# Altium schematic symbol library NEC CONTROL BOARD.SchLib: 9 symbols
Pins are listed as number, name and electrical type; pins without a type are passive.

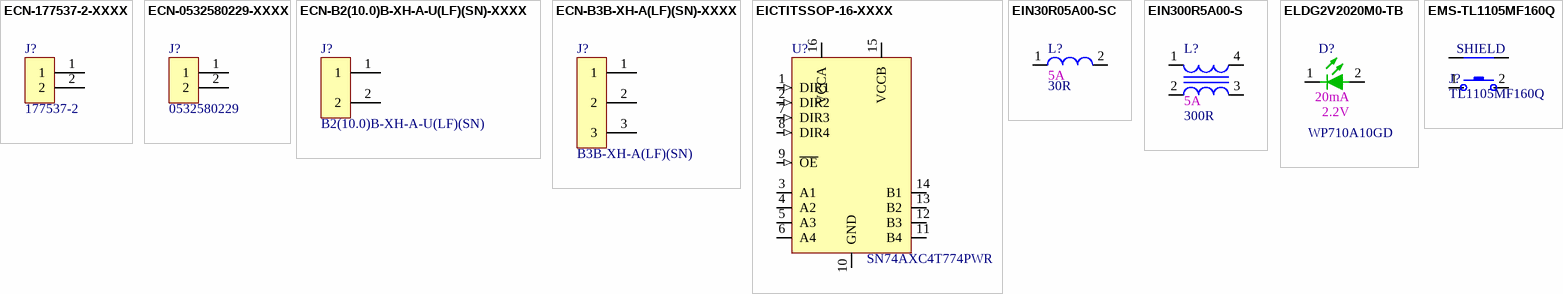
[diagram p0: symbols ECN-177537-2-XXXX to EMS-TL1105MF160Q]

## ECN-177537-2-XXXX
designator J?, comment value 177537-2  (hidden comment: CONN HEADER VERT 2POS 2.5MM)
Vendor Part Number: A112754-ND; Manufacturer: TE Connectivity AMP Connectors; Internal Part Number: ECN-177537-2-XXXX; 2nd Auxiliary Field: 2.50mm; 3rd Auxiliary Field: RoHS Compliant; Vendor Name: Digi-Key; Component Height (mm): 6.48mm; Temp Co: -25°C ~ 105°C; Part Type: CONN HEADER VERT 2POS 2.5MM; 1st Auxiliary Field: 2POS; 4th Auxiliary Field: *; Manufacturer Part Number: 177537-2
footprint TE_177537-2
pins: 1, 2

## ECN-0532580229-XXXX
designator J?, comment value 0532580229  (hidden comment: CONN HEADER VERT 2POS 3.5MM)
Vendor Part Number: WM3413-ND; Manufacturer: Molex; Internal Part Number: ECN-0532580229-XXXX; 2nd Auxiliary Field: 3.50mm; 3rd Auxiliary Field: ROHS3 Compliant; Vendor Name: Digi-Key; Component Height (mm): 10.5mm; Part Type: CONN HEADER VERT 2POS 3.5MM; 1st Auxiliary Field: 2POS; 4th Auxiliary Field: *; Manufacturer Part Number: 0532580229
footprint MOLEX_0532580229
pins: 1, 2

## ECN-B2(10.0)B-XH-A-U(LF)(SN)-XXXX
designator J?, comment value B2(10.0)B-XH-A-U(LF)(SN)  (hidden comment: CONN HEADER VERT 2POS 10MM)
Vendor Part Number: 455-4225-ND; Manufacturer: JST Sales America Inc.; Internal Part Number: ECN-B2(10.0)B-XH-A-U(LF)(SN)-XXXX; 1st Auxiliary Field: 3A; 2nd Auxiliary Field: 10.00mm; 3rd Auxiliary Field: ROHS Compliant; Vendor Name: Digi-Key; Component Height (mm): 7mm; Temp Co: -25°C ~ 85°C; Part Type: CONN HEADER VERT 2POS 10MM; 4th Auxiliary Field: *; Manufacturer Part Number: B2(10.0)B-XH-A-U(LF)(SN)
footprint JST_B2(10.0)B-XH-A-U(LF)(SN)
pins: 1, 2

## ECN-B3B-XH-A(LF)(SN)-XXXX
designator J?, comment value B3B-XH-A(LF)(SN)  (hidden comment: CONN HEADER VERT 3POS 2.5MM)
Vendor Part Number: 455-2248-ND; Manufacturer: JST Sales America Inc.; Internal Part Number: ECN-B3B-XH-A(LF)(SN)-XXXX; 1st Auxiliary Field: 3A; 2nd Auxiliary Field: 2.50mm; 3rd Auxiliary Field: ROHS Compliant; Vendor Name: Digi-Key; Component Height (mm): 7mm; Temp Co: -25°C ~ 85°C; Part Type: CONN HEADER VERT 3POS 2.5MM; 4th Auxiliary Field: *; Manufacturer Part Number: B3B-XH-A(LF)(SN)
footprint JST_B3B-XH-A(LF)(SN)
pins: 1, 2, 3

## EICTITSSOP-16-XXXX
designator U?, comment value SN74AXC4T774PWR  (hidden comment: IC LOGIC BUFFER/DRIVER)
Manufacturer: Texas Instruments; Vendor Part Number: 296-SN74AXC4T774PWRCT-ND; Internal Part Number: EICTITSSOP-16-XXXX; 1st Auxiliary Field: 0.65V ~ 3.6V; 2nd Auxiliary Field: 310Mbps; 3rd Auxiliary Field: ROHS3 Compliant; Vendor Name: Digi-Key; Component Height (mm): 1.2mm; Temp Co: -40°C ~ 125°C (TA); Manufacturer Part Number: SN74AXC4T774PWR; Part Type: IC LOGIC BUFFER/DRIVER; 4th Auxiliary Field: *
footprint TSOP65P640X120-16N (TSOP, 16-Leads, Body 5.00x4.40mm, Pitch 0.65mm, IPC Medium Density)
pins: 1 DIR1 (in), 2 DIR2 (in), 3 A1 (io), 4 A2 (io), 5 A3 (io), 6 A4 (io), 7 DIR3 (in), 8 DIR4 (in), 9 ~{OE} (in), 10 GND (power), 11 B4 (io), 12 B3 (io), 13 B2 (io), 14 B1 (io), 15 VCCB (power), 16 VCCA (power)

## EIN30R05A00-SC
designator L?, comment value 30R  1st Auxiliary Field: 5A  (hidden comment: FERRITE BEAD 30 OHM 0603 1LN)
Manufacturer: Murata Electronics; Manufacturer Part Number: BLM18KG300TZ1D; Vendor Part Number: 490-16498-1-ND; Internal Part Number: EIN30R05A00-SC; Vendor Name: Digi-Key; 3rd Auxiliary Field: ROHS3 Compliant; Component Height (mm): 0.75mm; Temp Co: -55°C ~ 125°C; 2nd Auxiliary Field: 30 Ohms @ 100MHz; Part Type: FERRITE BEAD 30 OHM 0603 1LN; 4th Auxiliary Field: *
footprint SMDL0603 (Footprint not found)
pins: 1, 2

## EIN300R5A00-S
designator L?, comment value 300R  1st Auxiliary Field: 5A  (hidden comment: CMC 5A 2LN 300 OHM SMD)
Manufacturer: TDK Corporation; Manufacturer Part Number: ACM7060-301-2PL-TL01; Vendor Part Number: 445-2214-1-ND; Internal Part Number: EIN300R05A00-S; Vendor Name: Digi-Key; 3rd Auxiliary Field: ROHS3 Compliant; Component Height (mm): 3.50mm; Temp Co: -40°C ~ 85°C; 2nd Auxiliary Field: 300 Ohms @ 100MHz; Part Type: CMC 5A 2LN 300 OHM SMD; 4th Auxiliary Field: *
footprint CHOKE_ACM7060-301-2PL-TL01
pins: 1, 2, 3, 4

## ELDG2V2020M0-TB
designator D?, comment value WP710A10GD  2nd Auxiliary Field: 20mA  1st Auxiliary Field: 2.2V  (hidden comment: LED GREEN DIFFUSED T-1 T/H)
Manufacturer: Kingbright; Vendor Part Number: 754-1603-ND; Internal Part Number: ELDG2V2020M0-TB; Vendor Name: Digi-Key; 3rd Auxiliary Field: ROHS3 Compliant; Component Height (mm): 5.90mm; Temp Co: -40°C ~ 85°C; Part Type: LED GREEN DIFFUSED T-1 T/H; Manufacturer Part Number: WP710A10GD; 4th Auxiliary Field: *
footprint LEDG-3.2D-T/H
pins: 1 K, 2 A

## EMS-TL1105MF160Q
designator J?, comment value TL1105MF160Q  (hidden comment: SWITCH TACTILE SPST-NO 0.05A 12V)
Vendor Part Number: EG4370-ND; Manufacturer: E-Switch; Internal Part Number: EMS-TL1105MF160Q; 1st Auxiliary Field: 0.05A @ 12VDC; 3rd Auxiliary Field: ROHS3 Compliant; Vendor Name: Digi-Key; Component Height (mm): 7mm; Temp Co: -20°C ~ 70°C; Part Type: SWITCH TACTILE SPST-NO 0.05A 12V; 2nd Auxiliary Field: SPST-NO; 4th Auxiliary Field: *; Manufacturer Part Number: TL1105MF160Q
footprint SW_TL1105MF160Q (SWITCH TACTILE SPST-NO 0.05A 12V)
pins: 0 S1, 0 S2, 1, 2
text: SHIELD